# EAGLE library part LTC3260EDE#PBF (library LTC3260EDE_PBF)
Check availability <https://pricing.snapeda.com/parts/LTC3260EDE%23PBF/Analog%20Devices/view-part?ref=eda>
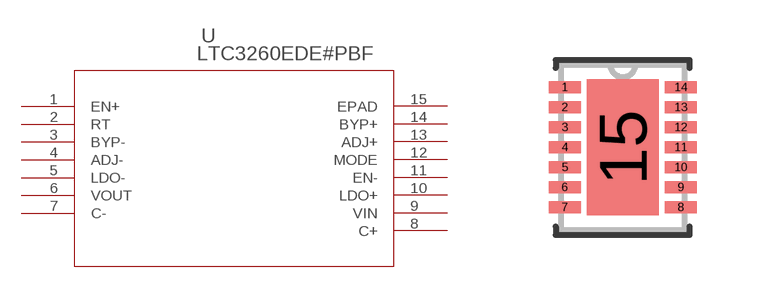
[diagram p0: symbol with the pads of DFN-14_DE; footprint DFN-14_DE]

Designator prefix U

## LTC3260EDE#PBF (Availability: In Stock; Check_prices: https://www.snapeda.com/parts/LTC3260EDE%23PBF/Analog+Devices/view-part/?ref=eda; Description: PMIC - Voltage Regulators - Linear Switching 1 Output Charge Pump 50kHz ~ 500kHz 14-DFN (4x3); MF: Analog Devices; MP: LTC3260EDE#PBF; Package: DFN-14 Linear Technology; Price: None; Purchase-URL: https://www.snapeda.com/api/url_track_click_mouser/?unipart_id=285920&manufacturer=Analog Devices&part_name=LTC3260EDE#PBF&search_term=None; SnapEDA_Link: https://www.snapeda.com/parts/LTC3260EDE%23PBF/Analog+Devices/view-part/?ref=snap)  [DFN-14_DE]
1  EN+  in
2  RT  in
3  BYP-  out
4  ADJ-  in
5  LDO-  out
6  VOUT  out
7  C-  pas
8  C+  pas
9  VIN  in
10  LDO+  out
11  EN-  in
12  MODE  in
13  ADJ+  in
14  BYP+  out
15  EPAD  pas

## Footprint DFN-14_DE (pad centres in mm)
smd 0.805 x 0.3: 1 -1.452,1.5; 2 -1.452,1; 3 -1.452,0.5; 4 -1.452,0; 5 -1.452,-0.5; 6 -1.452,-1; 7 -1.452,-1.5; 8 1.452,-1.5; 9 1.452,-1; 10 1.452,-0.5; 11 1.452,0; 12 1.452,0.5; 13 1.452,1; 14 1.452,1.5
smd 1.8 x 3.4: 15 0,0